# Altium footprint library RJ45.PcbLib: 2 footprints
Each footprint in its own frame and in the unit in brackets; x right, y up, seen from the top. Pads: shape width x height; smd on the part's side, far side on the other; paste and mask are expansions set on the pad; w line width, h text height; cw(c..) or ccw(c..) is an arc to the next point about the centre after c.
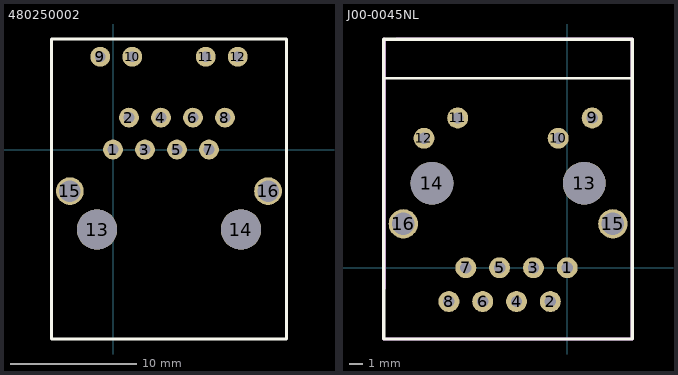
[diagram p0: the footprints below, top view; thin cyan lines are the x and y axes]

## 480250002 [mil] "Molex Code 480250002"
height 10
pads (16):
  round 62 / inner round 60 / far side round 62 hole 33.47: 1(0,0) 2(50,100) 3(100,0) 4(150,100) 5(200,0) 6(250,100) 7(300,0) 8(350,100) 9(-40,290.15) 10(60,290.15) 11(289.92,290.15) 12(389.92,290.15)
  round 126 / inner round 60 / far side round 126 hole 126: 13(-50.03,-250) 14(399.97,-250)
  round 86.61 hole 66.93: 15(-134.88,-129.92) 16(484.8,-129.92)
Top Overlay:
  lines w10: -191.93,-592.24 -191.93,345.75 542.07,345.75 542.07,-592.24 -191.93,-592.24
3D body: height 629.92, standoff 0, extent -193.03,-593.23 542.21,344.76

## J00-0045NL [mil] "Pulse, code: J00-0045NL"
height 472.44
pads (16):
  round 62 / inner round 60 / far side round 62 hole 33.47: 1(0,0) 2(-50,-100) 3(-100,0) 4(-150,-100) 5(-200,0) 6(-250,-100) 7(-300,0) 8(-350,-100) 9(73.66,442.91) 10(-26.74,382.87) 11(-323.98,442.91) 12(-423.59,382.87)
  round 126 / inner round 60 / far side round 126 hole 126: 13(50.03,250) 14(-399.97,250)
  round 86.61 hole 66.93: 15(134.88,129.92) 16(-484.8,129.92)
Top Overlay:
  lines w7.87: -542.07,560.04 191.93,560.04
  lines w10: -542.07,-210.63 -542.07,675.2 191.93,675.2 191.93,-210.63 -542.07,-210.63
Mechanical 1:
  lines w10: -542.32,-210.63 191.68,-210.63 ; -541.34,-61.02 -541.34,676.32 ; -504.07,675.2 190.94,675.2 ; 191.93,-208.66 191.93,675.2
3D body: height 531.5, standoff -118.11, extent -488.39,-161.42 136.81,681.1